# Altium schematic symbol library reed_switch_SPST.SchLib: 1 symbol
Pins are listed as number, name and electrical type; pins without a type are passive.

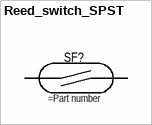
[diagram p0: symbol Reed_switch_SPST]

## Reed_switch_SPST
designator SF?
Reed switch (Геркон)
pins: 1, 2